# EAGLE library part TM-SI4463 (library RemoteSwitchComponents)
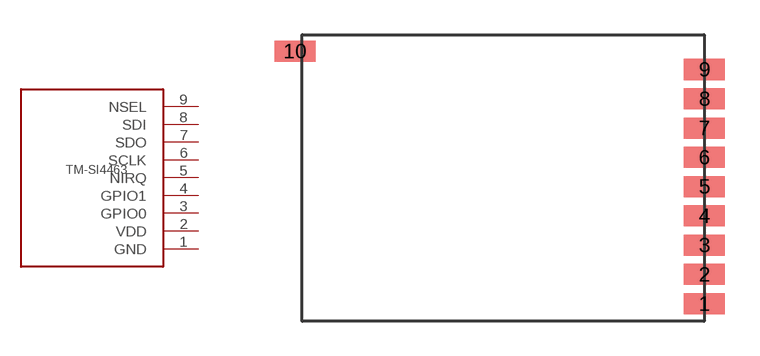
[diagram p2: symbol with the pads of TM-SI4463-SMD; footprint TM-SI4463-SMD]

Designator prefix -

## TM-SI4463  [TM-SI4463-SMD]
1  GND  pwr
2  VDD  pwr
3  GPIO0
4  GPIO1
5  NIRQ
6  SCLK
7  SDO
8  SDI
9  NSEL

## Footprint TM-SI4463-SMD (pad centres in mm)
smd 1.778 x 0.914: 1 8.572,-5.588; 2 8.572,-4.318; 3 8.572,-3.048; 4 8.572,-1.778; 5 8.572,-0.508; 6 8.572,0.762; 7 8.572,2.032; 8 8.572,3.302; 9 8.572,4.572; 10 -9.207,5.366